# EAGLE library part W25Q80BW (library memory-winbond)
EEPROM 8 Mbit SPI Serial Flash
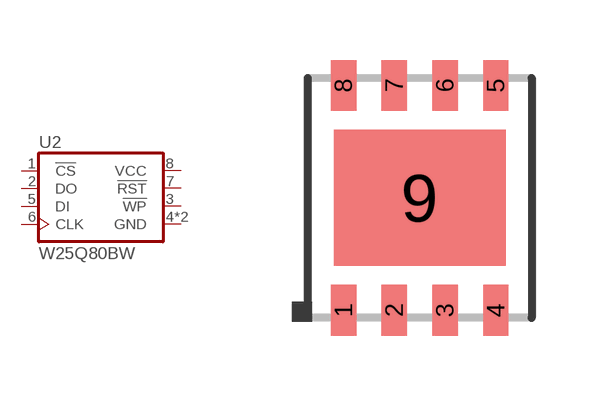
[diagram p1: symbol with the pads of WSON8; footprint WSON8]

Designator prefix U2

## W25Q80BWZP  [WSON8]
1  !CS!  in
2  DO  out
3  !WP!  in
4  GND  pwr
5  DI  in
6  CLK  in
7  !RST!  in
8  VCC  pwr
9  GND  pwr

## Footprint WSON8 (pad centres in mm)
8-WSON 8-Contact Very-very-thin Small Outline No-lead body 6.00 x 5.00 mm
smd 0.635 x 1.27: 1 -1.905,-2.81; 2 -0.635,-2.81; 3 0.635,-2.81; 4 1.905,-2.81; 5 1.905,2.81; 6 0.635,2.81; 7 -0.635,2.81; 8 -1.905,2.81
smd 4.3 x 3.4: 9 0,0